# EAGLE library part CP2102N-A02-GQFN24R (library CP2102N-A02-GQFN20R)
IC USB TO UART BRIDGE QFN20
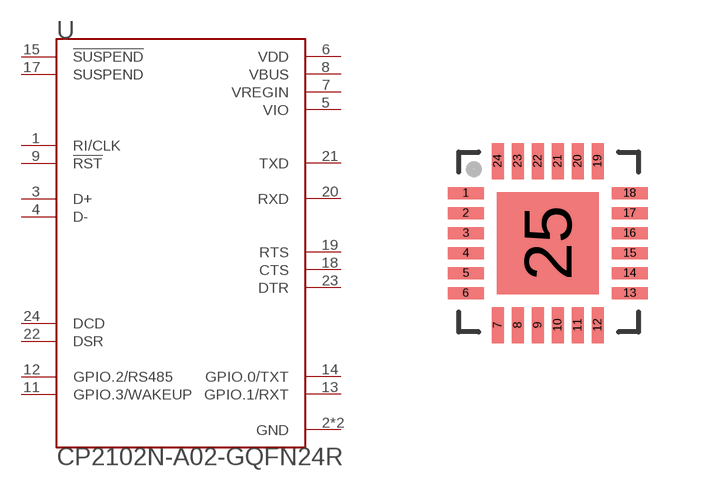
[diagram p1: symbol with the pads of SILABS_CP2102N-A02-GQFN24R; footprint SILABS_CP2102N-A02-GQFN24R]

Designator prefix U

## CP2102N-A02-GQFN24R  [SILABS_CP2102N-A02-GQFN24R]
1  RI/CLK  in
2  GND  pwr
3  D+
4  D-
5  VIO
6  VDD  pwr
7  VREGIN  pwr
8  VBUS  pwr
9  !RST  in
11  GPIO.3/WAKEUP
12  GPIO.2/RS485
13  GPIO.1/RXT
14  GPIO.0/TXT
15  !SUSPEND  out
17  SUSPEND  out
18  CTS  in
19  RTS  out
20  RXD  in
21  TXD  out
22  DSR
23  DTR
24  DCD
25  GND  pwr

## Footprint SILABS_CP2102N-A02-GQFN24R (pad centres in mm)
smd 0.9 x 0.3: 1 -1.55,1.75; 2 -1.55,1.25; 3 -1.55,0.75; 4 -1.55,0.25; 5 -1.55,-0.25; 6 -1.55,-0.75; 13 2.55,-0.75; 14 2.55,-0.25; 15 2.55,0.25; 16 2.55,0.75; 17 2.55,1.25; 18 2.55,1.75
smd 0.3 x 0.9: 7 -0.75,-1.55; 8 -0.25,-1.55; 9 0.25,-1.55; 10 0.75,-1.55; 11 1.25,-1.55; 12 1.75,-1.55; 19 1.75,2.55; 20 1.25,2.55; 21 0.75,2.55; 22 0.25,2.55; 23 -0.25,2.55; 24 -0.75,2.55
smd 2.55 x 2.55: 25 0.5,0.5